# Altium footprint library SI LABS WF111N.PCBLIB: 1 footprints
Each footprint in its own frame and in the unit in brackets; x right, y up, seen from the top. Pads: shape width x height; smd on the part's side, far side on the other; paste and mask are expansions set on the pad; w line width, h text height; cw(c..) or ccw(c..) is an arc to the next point about the centre after c.
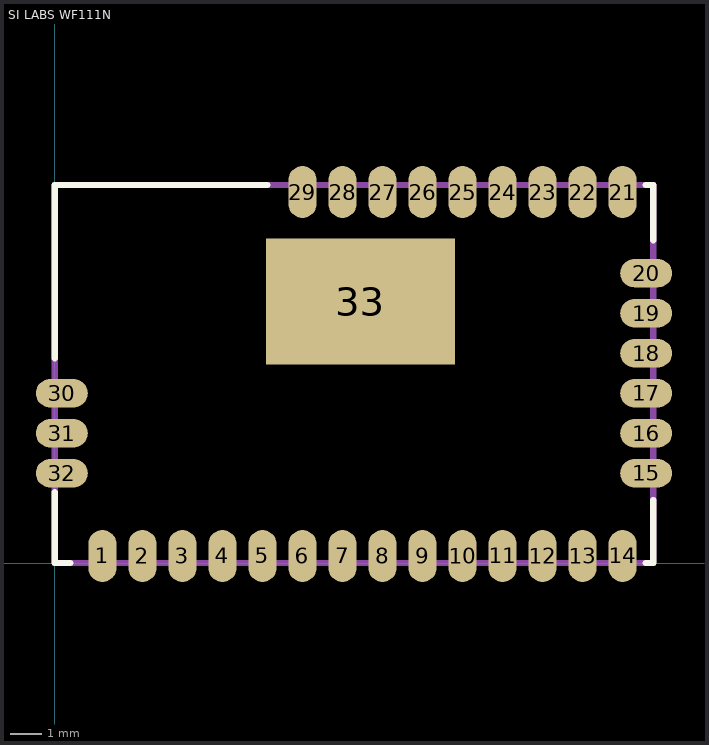
[diagram p0: the footprint, top view; thin cyan lines are the x and y axes]

## SI LABS WF111N [mm]
height 2.1
pads (33):
  oval 0.9x1.65 smd: 1(1.515,0.225) 2(2.785,0.225) 3(4.055,0.225) 4(5.325,0.225) 5(6.595,0.225) 6(7.865,0.225) 7(9.135,0.225) 8(10.405,0.225) 9(11.675,0.225) 10(12.945,0.225) 11(14.215,0.225) 12(15.485,0.225) 13(16.755,0.225) 14(18.025,0.225) 21(18.025,11.775) 22(16.755,11.775) 23(15.485,11.775) 24(14.215,11.775) 25(12.945,11.775) 26(11.675,11.775) 27(10.405,11.775) 28(9.135,11.775) 29(7.865,11.775)
  oval 1.65x0.9 smd: 15(18.775,2.85) 16(18.775,4.12) 17(18.775,5.39) 18(18.775,6.66) 19(18.775,7.93) 20(18.775,9.2) 30(0.225,5.39) 31(0.225,4.12) 32(0.225,2.85)
  rect 6x4 smd: 33(9.7,8.3)
Top Overlay:
  lines w0.2: 0,2.25 0,0 0.5,0 ; 0,6.5 0,12 6.75,12 ; 18.75,0 19,0 19,2 ; 18.75,12 19,12 19,10.25
Mechanical 1:
  lines w0.2: 0,0 19,0 19,12 0,12 0,0
3D body "WF111N.STEP": height 2.1, standoff 0, extent 0,0 19,12